# Altium footprint library CHXXX.pcblib: 161 footprints (part 9 of 11)
Each footprint in its own frame and in the unit in brackets; x right, y up, seen from the top. Pads: shape width x height; smd on the part's side, far side on the other; paste and mask are expansions set on the pad; w line width, h text height; cw(c..) or ccw(c..) is an arc to the next point about the centre after c.
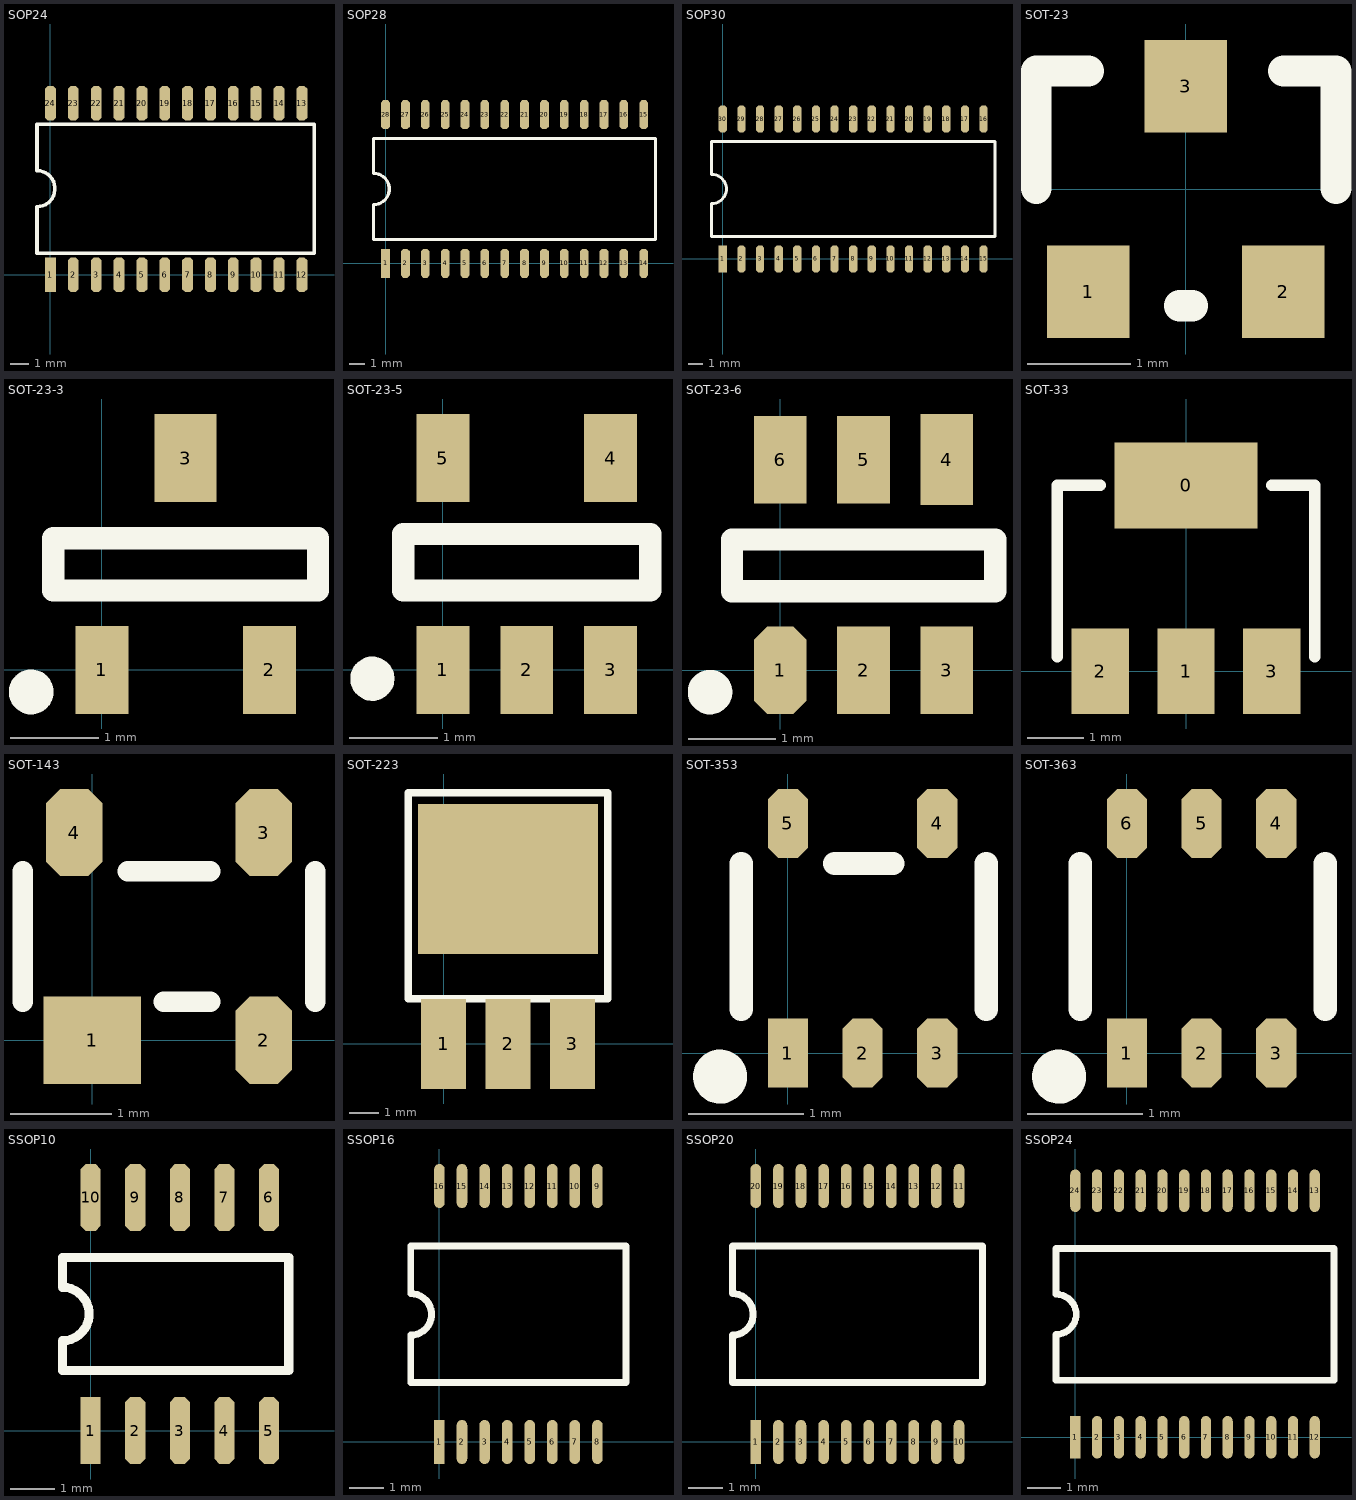
[diagram p8: the footprints below, top view; thin cyan lines are the x and y axes]

## SOP24 [mm]
pads (24):
  rect 0.6x1.905 smd: 1(0,0)
  oct 0.6x1.905 smd: 2(1.27,0) 3(2.54,0) 4(3.81,0) 5(5.08,0) 6(6.35,0) 7(7.62,0) 8(8.89,0) 9(10.16,0) 10(11.43,0) 11(12.7,0) 12(13.97,0) 13(13.97,9.525) 14(12.7,9.525) 15(11.43,9.525) 16(10.16,9.525) 17(8.89,9.525) 18(7.62,9.525) 19(6.35,9.525) 20(5.08,9.525) 21(3.81,9.525) 22(2.54,9.525) 23(1.27,9.525) 24(0,9.525)
TopOverlay:
  lines w0.2: -0.747,1.191 -0.747,3.78 ccw(c-0.747,4.78) -0.747,5.78 -0.747,8.368 14.653,8.368 14.653,1.191 -0.747,1.191

## SOP28 [mil]
pads (28):
  rect 22x72 smd: 1(0,0)
  oct 22x72 smd: 2(50,0) 3(100,0) 4(150,0) 5(200,0) 6(250,0) 7(300,0) 8(350,0) 9(400,0) 10(450,0) 11(500,0) 12(550,0) 13(600,0) 14(650,0) 15(650,375) 16(600,375) 17(550,375) 18(500,375) 19(450,375) 20(400,375) 21(350,375) 22(300,375) 23(250,375) 24(200,375) 25(150,375) 26(100,375) 27(50,375) 28(0,375)
TopOverlay:
  lines w8: -30,147.63 -30,60 680,60 680,315 -30,315 -30,226.87 cw(c-30,187.5) -30,148.13

## SOP30 [mil]
pads (30):
  rect 22x72 smd: 1(0,0)
  oct 22x72 smd: 2(50,0) 3(100,0) 4(150,0) 5(200,0) 6(250,0) 7(300,0) 8(350,0) 9(400,0) 10(450,0) 11(500,0) 12(550,0) 13(600,0) 14(650,0) 15(700,0) 16(700,375) 17(650,375) 18(600,375) 19(550,375) 20(500,375) 21(450,375) 22(400,375) 23(350,375) 24(300,375) 25(250,375) 26(200,375) 27(150,375) 28(100,375) 29(50,375) 30(0,375)
TopOverlay:
  lines w8: -30,60 -30,148.13 ccw(c-30,187.5) -30,226.87 -30,315 730,315 730,60 -30,60

## SOT-23 [mm]
height 1.3
pads (3):
  rect 0.8x0.9 smd: 1(-0.95,-1) 2(0.95,-1) 3(0,1)
TopOverlay:
  lines w0.305: -1.458,0.006 -1.458,1.149 -0.95,1.149 ; -0.061,-1.137 0.066,-1.137 ; 0.955,1.149 1.463,1.149 1.463,0.006

## SOT-23-3 [mm] "SOT-23-3"
pads (3):
  rect 0.6x1 smd: 1(0,0) 2(1.9,0)
  rect 0.7x1 smd: 3(0.95,2.4)
TopOverlay:
  circle w0.254: c-0.8,-0.25 r0.127
  lines w0.254: -0.55,0.9 2.45,0.9 2.45,1.49 -0.55,1.49 -0.55,0.9

## SOT-23-5 [mm]
pads (5):
  rect 0.6x1 smd: 1(0,0) 2(0.95,0) 3(1.9,0) 4(1.9,2.4) 5(0,2.4)
TopOverlay:
  circle w0.25: c-0.8,-0.1 r0.125
  lines w0.254: -0.45,0.9 2.35,0.9 2.35,1.54 -0.45,1.54 -0.45,0.9

## SOT-23-6 [mm] "SOT-23-6"
pads (6):
  oct 0.6x1 smd: 1(0,0)
  rect 0.6x1 smd: 2(0.95,0) 3(1.9,0) 5(0.95,2.4) 6(0,2.4)
  rect 0.6x1.04 smd: 4(1.9,2.4)
TopOverlay:
  circle w0.254: c-0.8,-0.25 r0.127
  lines w0.254: -0.55,0.9 2.45,0.9 2.45,1.49 -0.55,1.49 -0.55,0.9

## SOT-33 [mil]
pads (4):
  rect 100x60 smd: 0(0,130)
  rect 40x60 smd: 1(0,0) 2(-60,0) 3(60,0)
TopOverlay:
  lines w8: -90,10 -90,130 -60,130 ; 60,130 90,130 90,10

## SOT-143 [mil]
pads (4):
  rect 38x34 smd: 1(0,0)
  oct 22x34 smd: 2(67,0) 3(67,81) 4(-7,81)
TopOverlay:
  lines w8: -27,15 -27,66 ; 14,66 46,66 ; 28,15 46,15 ; 87,15 87,66

## SOT-223 [mil]
pads (4):
  rect 60x120 smd: 1(0,0) 2(86,0) 3(172,0)
  rect 240x200 smd: ""(86,220)
TopOverlay:
  lines w10: -47,60 -47,335 219,335 219,60 -47,60

## SOT-353 [mm]
pads (5):
  rect 0.35x0.6 smd mask+0.051: 1(0,0)
  oct 0.35x0.6 smd mask+0.051: 2(0.65,0) 3(1.3,0) 4(1.3,2) 5(0,2)
TopOverlay:
  circle w0.254: c-0.59,-0.205 r0.108
  lines w0.203: -0.406,0.381 -0.406,1.651 ; 0.406,1.651 0.914,1.651 ; 1.727,0.381 1.727,1.651

## SOT-363 [mm]
pads (6):
  rect 0.35x0.6 smd mask+0.051: 1(0,0)
  oct 0.35x0.6 smd mask+0.051: 2(0.65,0) 3(1.3,0) 4(1.3,2) 5(0.65,2) 6(0,2)
TopOverlay:
  circle w0.254: c-0.59,-0.205 r0.108
  lines w0.203: -0.406,0.381 -0.406,1.651 ; 1.727,0.381 1.727,1.651

## SSOP10 [mm]
pads (10):
  rect 0.45x1.5 smd: 1(0,0)
  oct 0.45x1.5 smd: 2(1,0) 3(2,0) 4(3,0) 5(4,0) 6(4,5.232) 7(3,5.232) 8(2,5.232) 9(1,5.232) 10(0,5.232)
TopOverlay:
  lines w0.203: -0.635,1.346 -0.635,2.016 ccw(c-0.635,2.616) -0.635,3.216 -0.635,3.886 4.445,3.886 4.445,1.346 -0.635,1.346

## SSOP16 [mil]
pads (16):
  rect 12x50 smd: 1(0,0)
  oval 12x50 smd: 2(25.6,0) 3(51.2,0) 4(76.8,0) 5(102.4,0) 6(128,0) 7(153.5,0) 8(179.1,0) 9(179.1,290) 10(153.5,290) 11(128,290) 12(102.4,290) 13(76.8,290) 14(51.2,290) 15(25.6,290) 16(0,290)
TopOverlay:
  lines w7.87: -32.48,67.24 211.61,67.24 211.61,221.97 -32.48,221.97 -32.48,168.23 cw(c-32.48,144.61) -32.48,120.98 -32.48,67.24

## SSOP20 [mil]
pads (20):
  rect 12x50 smd: 1(0,0)
  oval 12x50 smd: 2(25.6,0) 3(51.2,0) 4(76.8,0) 5(102.4,0) 6(128,0) 7(153.5,0) 8(179.1,0) 9(204.7,0) 10(230.3,0) 11(230.3,290) 12(204.7,290) 13(179.1,290) 14(153.5,290) 15(128,290) 16(102.4,290) 17(76.8,290) 18(51.2,290) 19(25.6,290) 20(0,290)
TopOverlay:
  lines w7.87: -26.57,67.24 -26.57,120.98 ccw(c-26.57,144.61) -26.57,168.23 -26.57,221.97 256.89,221.97 256.89,67.24 -26.57,67.24

## SSOP24 [mil]
pads (24):
  rect 12x50 smd: 1(0,0)
  oval 12x50 smd: 2(25.6,0) 3(51.2,0) 4(76.8,0) 5(102.4,0) 6(128,0) 7(153.5,0) 8(179.1,0) 9(204.7,0) 10(230.3,0) 11(256,0) 12(281.5,0) 13(281.5,290) 14(256,290) 15(230.3,290) 16(204.7,290) 17(179.1,290) 18(153.5,290) 19(128,290) 20(102.4,290) 21(76.8,290) 22(51.2,290) 23(25.6,290) 24(0,290)
TopOverlay:
  lines w7.87: -22.64,67.24 -22.64,120.98 ccw(c-22.64,144.61) -22.64,168.23 -22.64,221.97 304.13,221.97 304.13,67.24 -22.64,67.24